# EAGLE library part BQ24650RVAR (library snapeda_BQ24650RVAR)
Check prices <https://pricing.snapeda.com/parts/BQ24650RVAR/Texas%20Instruments/view-part?ref=eda>
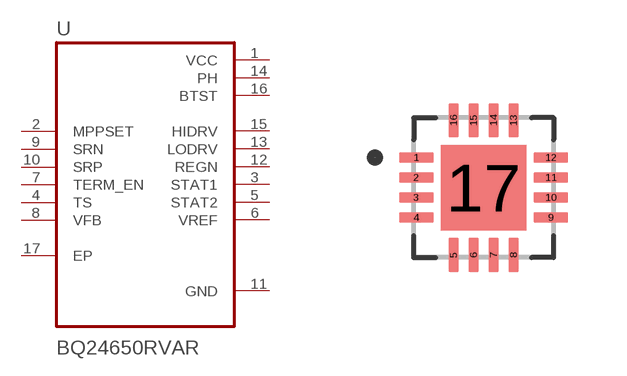
[diagram p0: symbol with the pads of QFN50P350X350X100-17N; footprint QFN50P350X350X100-17N]

Designator prefix U

## BQ24650RVAR (AVAILABILITY: Warning; DESCRIPTION: High efficiency synchronous switch-mode charger controller solar battery charger 16-VQFN -40 to 85; MF: Texas Instruments; MP: BQ24650RVAR; PACKAGE: VQFN-16 Texas Instruments; PRICE: None; PURCHASE-URL: https://pricing.snapeda.com/search/part/BQ24650RVAR/?ref=eda)  [QFN50P350X350X100-17N]
1  VCC  pwr
2  MPPSET  in
3  STAT1  out
4  TS  in
5  STAT2  out
6  VREF  out
7  TERM_EN  in
8  VFB  in
9  SRN  in
10  SRP  in
11  GND  pwr
12  REGN  out
13  LODRV  out
14  PH  pwr
15  HIDRV  out
16  BTST  pwr
17  EP

## Footprint QFN50P350X350X100-17N (pad centres in mm)
smd 0.86 x 0.26: 1 -1.685,0.75; 2 -1.685,0.25; 3 -1.685,-0.25; 4 -1.685,-0.75; 9 1.685,-0.75; 10 1.685,-0.25; 11 1.685,0.25; 12 1.685,0.75
smd 0.26 x 0.86: 5 -0.75,-1.685; 6 -0.25,-1.685; 7 0.25,-1.685; 8 0.75,-1.685; 13 0.75,1.685; 14 0.25,1.685; 15 -0.25,1.685; 16 -0.75,1.685
smd 2.14 x 2.14: 17 0,0